# EAGLE library part 50281-022 (library con-aces-50281-series)
ACES CONNECTORS 50281 SERIES ACES Connecors 50281
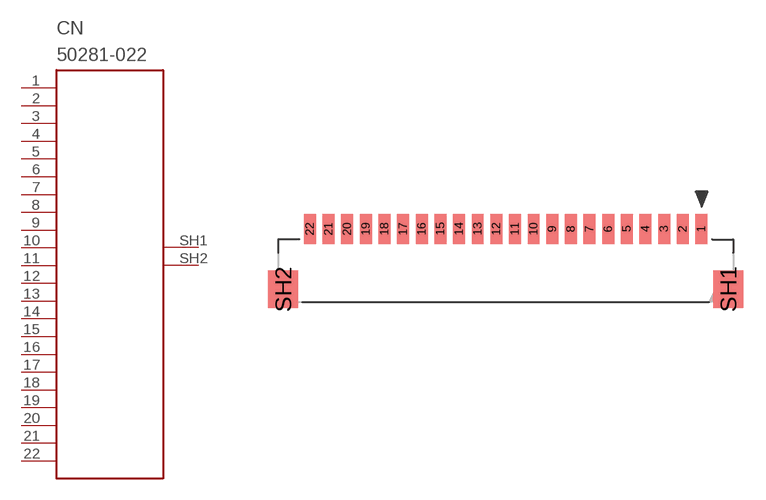
[diagram p14: symbol with the pads of 50281-022; footprint 50281-022]

Designator prefix CN

## 50281-022  [50281-022]
1  1
2  2
3  3
4  4
5  5
6  6
7  7
8  8
9  9
10  10
11  11
12  12
13  13
14  14
15  15
16  16
17  17
18  18
19  19
20  20
21  21
22  22
SH1  SH1
SH2  SH2

## Footprint 50281-022 (pad centres in mm)
smd 0.8 x 2: 1 13.125,1.9; 2 11.875,1.9; 3 10.625,1.9; 4 9.375,1.9; 5 8.125,1.9; 6 6.875,1.9; 7 5.625,1.9; 8 4.375,1.9; 9 3.125,1.9; 10 1.875,1.9; 11 0.625,1.9; 12 -0.625,1.9; 13 -1.875,1.9; 14 -3.125,1.9; 15 -4.375,1.9; 16 -5.625,1.9; 17 -6.875,1.9; 18 -8.125,1.9; 19 -9.375,1.9; 20 -10.625,1.9; 21 -11.875,1.9; 22 -13.125,1.9
smd 2 x 2.5: SH1 14.925,-2.15; SH2 -14.925,-2.15